# Altium schematic symbol library SCH - A2B - AD AD2428WCCSZ.Schlib: 1 symbol
Pins are listed as number, name and electrical type; pins without a type are passive.

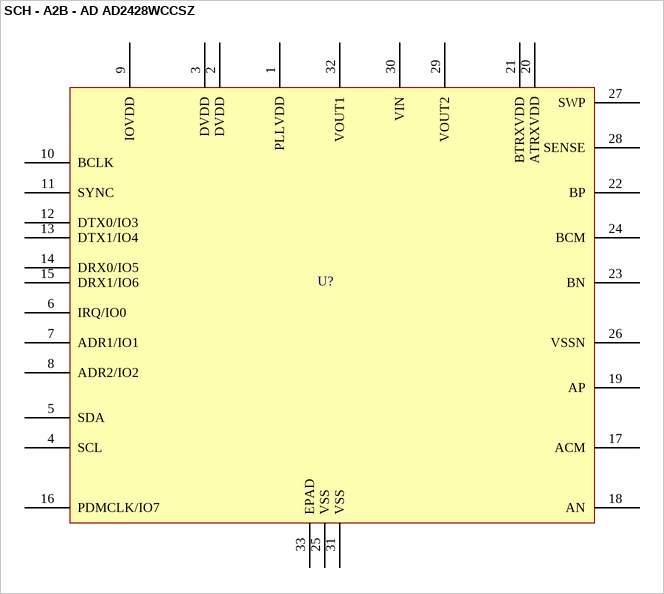
[diagram p0: symbol SCH - A2B - AD AD2428WCCSZ]

## SCH - A2B - AD AD2428WCCSZ
designator U?
footprint QFN127P600-8N (32-Lead Frame Chip Scale Package 5mmx5mm)
pins: 1 PLLVDD, 2 DVDD, 3 DVDD, 4 SCL, 5 SDA, 6 IRQ/IO0, 7 ADR1/IO1, 8 ADR2/IO2, 9 IOVDD, 10 BCLK, 11 SYNC, 12 DTX0/IO3, 13 DTX1/IO4, 14 DRX0/IO5, 15 DRX1/IO6, 16 PDMCLK/IO7, 17 ACM, 18 AN, 19 AP, 20 ATRXVDD, 21 BTRXVDD, 22 BP, 23 BN, 24 BCM, 25 VSS, 26 VSSN, 27 SWP, 28 SENSE, 29 VOUT2, 30 VIN, 31 VSS, 32 VOUT1, 33 EPAD